# EAGLE library part BQ27427YZFR (library custom_library)
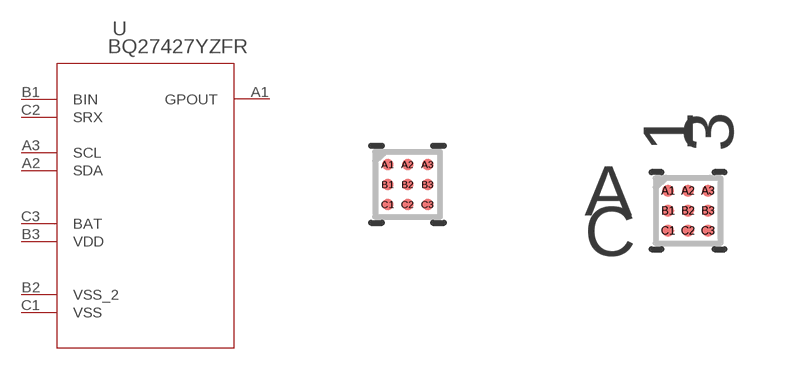
[diagram p0: symbol with the pads of DSBGA9-YZF_TEX; footprints DSBGA9-YZF_TEX, DSBGA9-YZF_TEX-M]

Designator prefix U

## BQ27427YZFR (COPYRIGHT: Copyright (C) 2024 Ultra Librarian. All rights reserved.; MANUFACTURER_PART_NUMBER: BQ27427YZFR; MFR_NAME: Texas Instruments)  [DSBGA9-YZF_TEX]
A1  GPOUT  out
A2  SDA
A3  SCL
B1  BIN  in
B2  VSS_2  pas
B3  VDD  out
C1  VSS  pas
C2  SRX  in
C3  BAT  pwr

## BQ27427YZFRDSBGA9-YZF_TEX-M (COPYRIGHT: Copyright (C) 2024 Ultra Librarian. All rights reserved.; MANUFACTURER_PART_NUMBER: BQ27427YZFR; MFR_NAME: Texas Instruments)  [DSBGA9-YZF_TEX-M]
Pads as for DSBGA9-YZF_TEX

## BQ27427YZFRDSBGA9-YZF_TEX-L (COPYRIGHT: Copyright (C) 2024 Ultra Librarian. All rights reserved.; MANUFACTURER_PART_NUMBER: BQ27427YZFR; MFR_NAME: Texas Instruments)  [DSBGA9-YZF_TEX-L]
Pads as for DSBGA9-YZF_TEX

## Footprint DSBGA9-YZF_TEX (pad centres in mm)
smd 0.284 x 0.284: A1 -0.5,0.5; A2 0,0.5; A3 0.5,0.5; B1 -0.5,0; B2 0,0; B3 0.5,0; C1 -0.5,-0.5; C2 0,-0.5; C3 0.5,-0.5

## Footprint DSBGA9-YZF_TEX-M (pad centres in mm)
smd 0.302 x 0.302: A1 -0.5,0.5; A2 0,0.5; A3 0.5,0.5; B1 -0.5,0; B2 0,0; B3 0.5,0; C1 -0.5,-0.5; C2 0,-0.5; C3 0.5,-0.5

## Footprint DSBGA9-YZF_TEX-L (pad centres in mm)
smd 0.267 x 0.267: A1 -0.5,0.5; A2 0,0.5; A3 0.5,0.5; B1 -0.5,0; B2 0,0; B3 0.5,0; C1 -0.5,-0.5; C2 0,-0.5; C3 0.5,-0.5